# EAGLE library part 6PIN-VERT (library Vertical_Connectors)
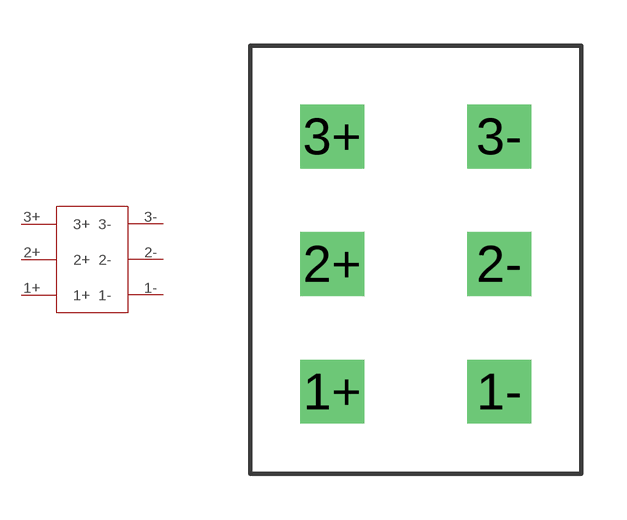
[diagram p0: symbol with the pads of 6PIN_VERT; footprint 6PIN_VERT]

Designator prefix -

## 6PIN-VERT  [6PIN_VERT]
1+  1+
1-  1-
2+  2+
2-  2-
3+  3+
3-  3-

## Footprint 6PIN_VERT (pad centres in mm)
drill 1.4 square: 1+ 0,0; 1- 5.5,0; 2+ 0,4.2; 2- 5.5,4.2; 3+ 0,8.4; 3- 5.5,8.4